# EAGLE library part PEC11R-4020F-S0024 (library SamacSys_Parts)
Bourns 24 Pulse Incremental Mechanical Rotary Encoder with a 6 mm Flat Shaft (Not Indexed), Through Hole Source: Datasheet <https://www.bourns.com/docs/Product-Datasheets/PEC11R.pdf>
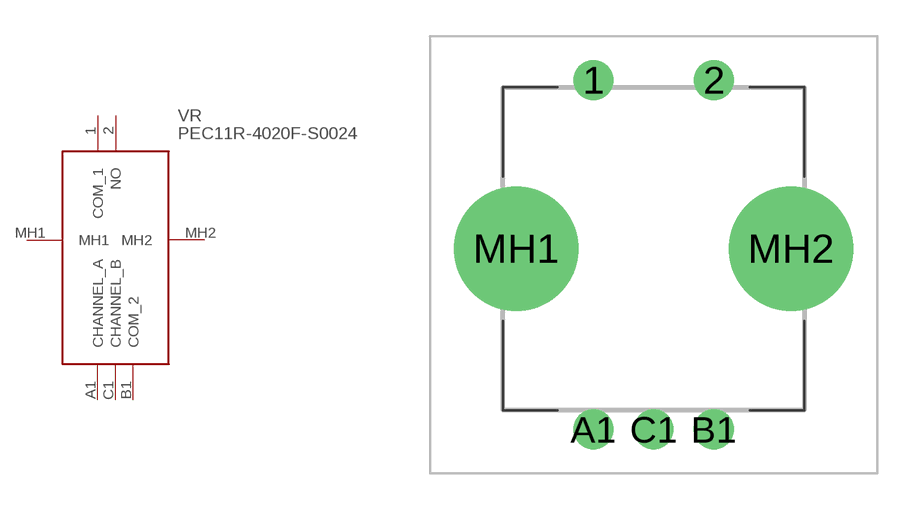
[diagram p0: symbol with the pads of PEC11R4220FS0024; footprint PEC11R4220FS0024]

Designator prefix VR

## PEC11R-4020F-S0024 (DESCRIPTION: Bourns 24 Pulse Incremental Mechanical Rotary Encoder with a 6 mm Flat Shaft (Not Indexed), Through Hole; HEIGHT: 27.5mm; MANUFACTURER_NAME: Bourns; MANUFACTURER_PART_NUMBER: PEC11R-4020F-S0024; MOUSER_PART_NUMBER: 652-PEC11R-4020F-S24; MOUSER_PRICE-STOCK: https://www.mouser.co.uk/ProductDetail/Bourns/PEC11R-4020F-S0024?qs=Zq5ylnUbLm5frc1t%252B4GcTQ%3D%3D)  [PEC11R4220FS0024]
1  COM_1
2  NO
A1  CHANNEL_A
B1  COM_2
C1  CHANNEL_B
MH1  MH1
MH2  MH2

## Footprint PEC11R4220FS0024 (pad centres in mm)
PEC11R-4220F-S0024-2
drill 1.1 pad 1.65: 1 0,0; 2 5,0; A1 0,-14.5; B1 5,-14.5; C1 2.5,-14.5
drill 3.441 pad 5.161: MH1 -3.2,-7; MH2 8.2,-7